# Altium footprint library Fromm.PcbLib: 105 footprints (part 3 of 7)
Each footprint in its own frame and in the unit in brackets; x right, y up, seen from the top. Pads: shape width x height; smd on the part's side, far side on the other; paste and mask are expansions set on the pad; w line width, h text height; cw(c..) or ccw(c..) is an arc to the next point about the centre after c.
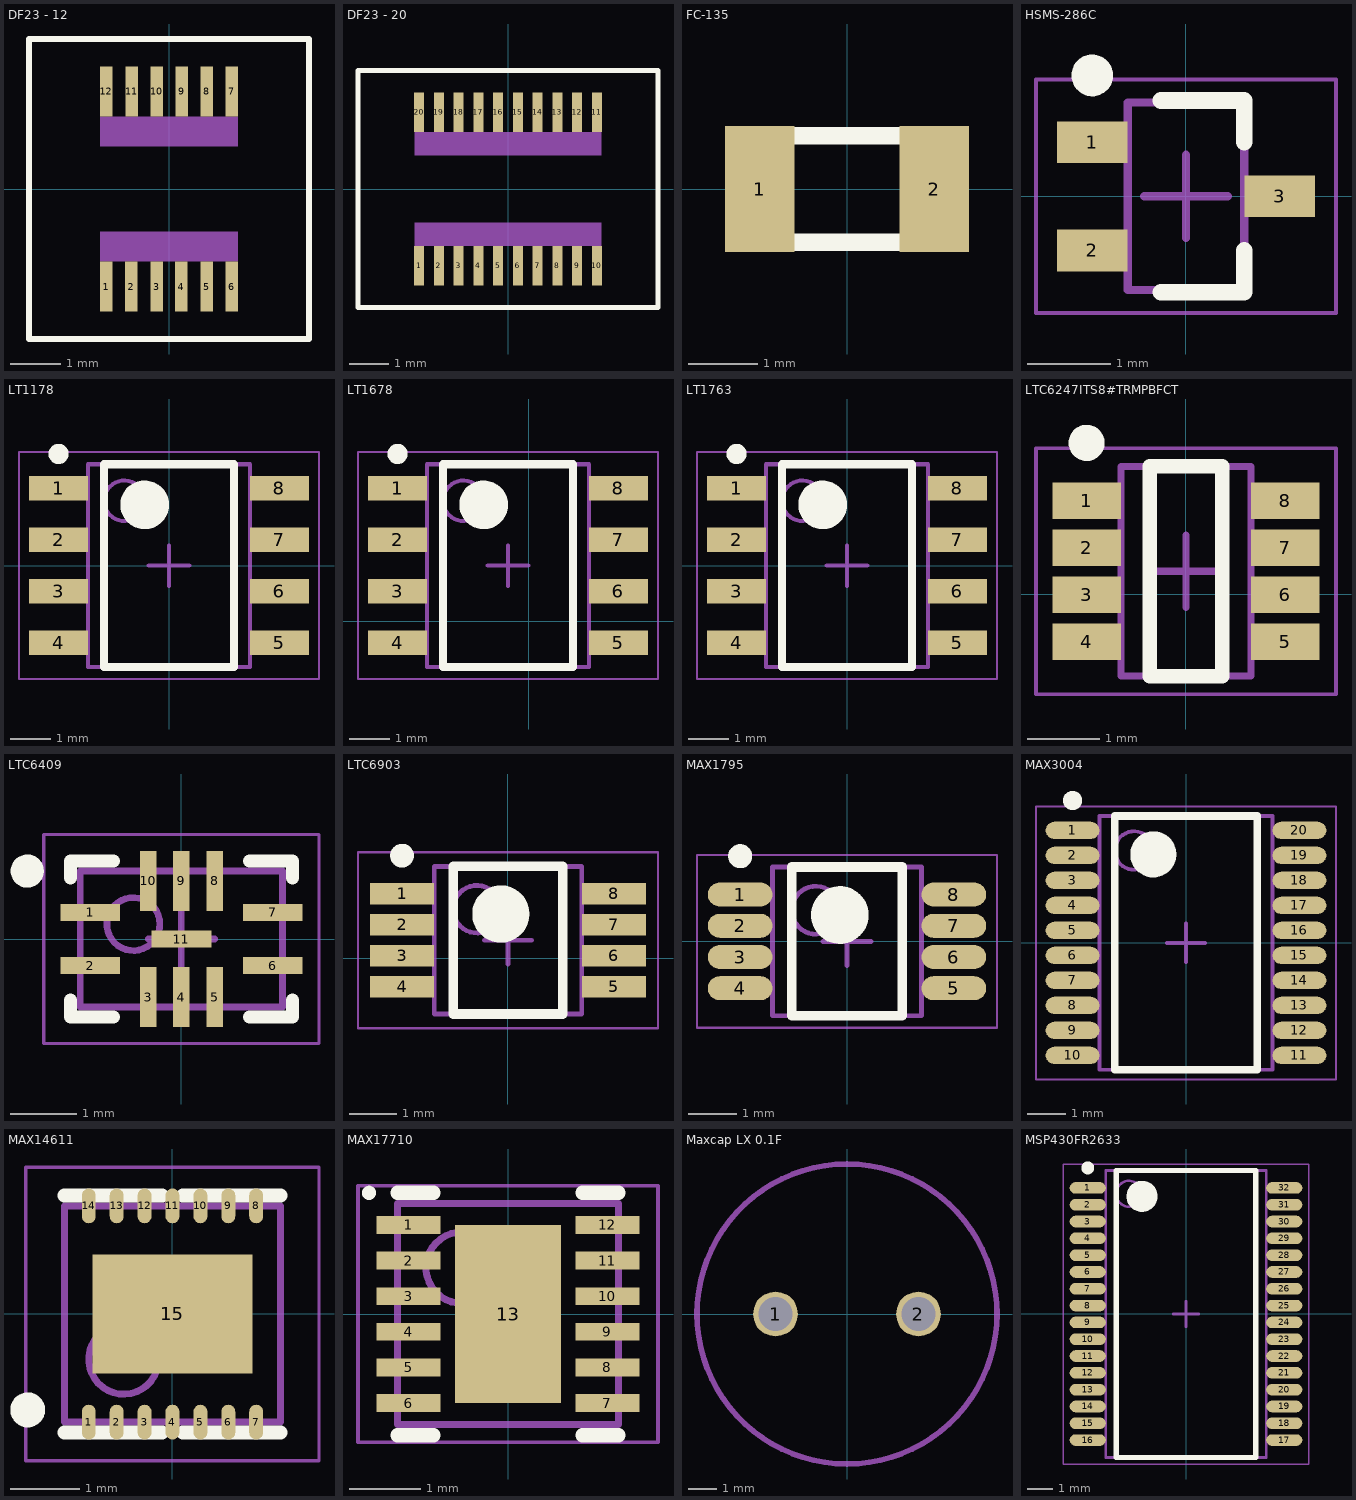
[diagram p2: the footprints below, top view; thin cyan lines are the x and y axes]

## DF23 - 12 [mm] "DF23 - 12, Connector"
height 1.2
pads (12):
  rect 0.25x1 smd: 1(-1.25,-1.95) 2(-0.75,-1.95) 3(-0.25,-1.95) 4(0.25,-1.95) 5(0.75,-1.95) 6(1.25,-1.95) 7(1.25,1.95) 8(0.75,1.95) 9(0.25,1.95) 10(-0.25,1.95) 11(-0.75,1.95) 12(-1.25,1.95)
Top Overlay:
  lines w0.127: -2.8,-3 -2.8,3 2.8,3 2.8,-3 -2.8,-3
Mechanical 1:
  rectangle: -1.375,0.85 1.375,1.45
  rectangle: -1.375,-1.45 1.375,-0.85
  text "Conductors in area must be masked" at -1.375,-0.7 h0.2

## DF23 - 20 [mm] "DF23 - 20, Connector"
height 1.2
pads (20):
  rect 0.25x1 smd: 1(-2.25,-1.95) 2(-1.75,-1.95) 3(-1.25,-1.95) 4(-0.75,-1.95) 5(-0.25,-1.95) 6(0.25,-1.95) 7(0.75,-1.95) 8(1.25,-1.95) 9(1.75,-1.95) 10(2.25,-1.95) 11(2.25,1.95) 12(1.75,1.95) 13(1.25,1.95) 14(0.75,1.95) 15(0.25,1.95) 16(-0.25,1.95) 17(-0.75,1.95) 18(-1.25,1.95) 19(-1.75,1.95) 20(-2.25,1.95)
Top Overlay:
  lines w0.127: -3.8,-3 3.8,-3 3.8,3 -3.8,3 -3.8,-3
Mechanical 1:
  rectangle: -2.375,-1.45 2.375,-0.85
  rectangle: -2.375,0.85 2.375,1.45
  text "Conductors in area must be masked" at -2.375,-0.7 h0.2

## FC-135 [mm] "FC-135   crystal - epson eletronics"
height 0.8
pads (2):
  rect 1x1.8 smd: 1(-1.25,0) 2(1.25,0)
Top Overlay:
  lines w0.254: -0.762,-0.762 0.762,-0.762 ; -0.762,0.762 0.762,0.762

## HSMS-286C [mm] "950 Mhz - 5 Ghz Dual Schottky Diode"
height 1
pads (3):
  rect 0.85x0.5 smd: 1(-1.125,0.65) 2(-1.125,-0.65) 3(1.125,0)
Top Overlay:
  circle w0.25: c-1.125,1.45 r0.125
  lines w0.2: -0.3,-1.15 0.7,-1.15 0.7,-0.65 ; -0.3,1.15 0.7,1.15 0.7,0.65
Mechanical 13:
  lines w0.1: -0.7,-1.125 -0.7,1.125 0.7,1.125 0.7,-1.125 -0.7,-1.125
Mechanical 15:
  lines w0.05: -1.8,-1.4 -1.8,1.4 1.8,1.4 1.8,-1.4 -1.8,-1.4
  lines w0.1: -0.5,0 0.5,0 ; 0,-0.5 0,0.5
3D body: height 1, standoff 0.25, extent -0.7,-1.125 0.7,1.125

## LT1178 [mm] "Op Amp"
height 1.35
pads (8):
  rect 1.45x0.6 smd: 1(-2.725,1.905) 2(-2.725,0.635) 3(-2.725,-0.635) 4(-2.725,-1.905) 5(2.725,-1.905) 6(2.725,-0.635) 7(2.725,0.635) 8(2.725,1.905)
Top Overlay:
  circle w0.6: c-0.6,1.5 r0.3
  circle w0.25: c-2.725,2.755 r0.125
  lines w0.2: -1.6,-2.5 1.6,-2.5 1.6,2.5 -1.6,2.5 -1.6,-2.5
Mechanical 13:
  circle w0.1: c-1.1,1.6 r0.5
  lines w0.1: -2,-2.5 2,-2.5 2,2.5 -2,2.5 -2,-2.5
Mechanical 15:
  lines w0.05: -3.7,-2.8 3.7,-2.8 3.7,2.8 -3.7,2.8 -3.7,-2.8
  lines w0.1: -0.5,0 0.5,0 ; 0,-0.5 0,0.5
3D body: height 1.75, standoff 1.35, extent -2,-2.5 2,2.5

## LT1678 [mm] "Rail to Rail Precision Op Amp"
pads (8):
  rect 1.45x0.6 smd: 1(-3.233,3.277) 2(-3.233,2.007) 3(-3.233,0.737) 4(-3.233,-0.533) 5(2.217,-0.533) 6(2.217,0.737) 7(2.217,2.007) 8(2.217,3.277)
Top Overlay:
  circle w0.6: c-1.108,2.872 r0.3
  circle w0.25: c-3.233,4.127 r0.125
  lines w0.2: -2.108,-1.128 1.092,-1.128 1.092,3.872 -2.108,3.872 -2.108,-1.128
Mechanical 13:
  circle w0.1: c-1.608,2.972 r0.5
  lines w0.1: -2.508,-1.128 1.492,-1.128 1.492,3.872 -2.508,3.872 -2.508,-1.128
Mechanical 15:
  lines w0.05: -4.208,-1.428 3.192,-1.428 3.192,4.172 -4.208,4.172 -4.208,-1.428
  lines w0.1: -1.008,1.372 -0.008,1.372 ; -0.508,0.872 -0.508,1.872
3D body: height 1.75, standoff 1.35, extent -2.508,-1.128 1.492,3.872

## LT1763 [mm] "Low Dropout Regulator"
height 1.35
pads (8):
  rect 1.45x0.6 smd: 1(-2.725,1.905) 2(-2.725,0.635) 3(-2.725,-0.635) 4(-2.725,-1.905) 5(2.725,-1.905) 6(2.725,-0.635) 7(2.725,0.635) 8(2.725,1.905)
Top Overlay:
  circle w0.6: c-0.6,1.5 r0.3
  circle w0.25: c-2.725,2.755 r0.125
  lines w0.2: -1.6,-2.5 1.6,-2.5 1.6,2.5 -1.6,2.5 -1.6,-2.5
Mechanical 13:
  circle w0.1: c-1.1,1.6 r0.5
  lines w0.1: -2,-2.5 2,-2.5 2,2.5 -2,2.5 -2,-2.5
Mechanical 15:
  lines w0.05: -3.7,-2.8 3.7,-2.8 3.7,2.8 -3.7,2.8 -3.7,-2.8
  lines w0.1: -0.5,0 0.5,0 ; 0,-0.5 0,0.5
3D body: height 1.75, standoff 1.35, extent -2,-2.5 2,2.5

## LTC6247ITS8#TRMPBFCT [mm] "TS8 Package Opamp"
pads (8):
  rect 0.95x0.5 smd: 1(-1.371,1.29) 2(-1.371,0.64) 3(-1.371,-0.01) 4(-1.371,-0.66) 5(1.379,-0.66) 6(1.379,-0.01) 7(1.379,0.64) 8(1.379,1.29)
Top Overlay:
  circle w0.25: c-1.371,2.09 r0.125
  lines w0.2: -0.496,-1.135 -0.496,1.765 0.504,1.765 0.504,-1.135 -0.496,-1.135
Mechanical 13:
  lines w0.1: -0.896,-1.135 -0.896,1.765 0.904,1.765 0.904,-1.135 -0.896,-1.135
Mechanical 15:
  lines w0.05: -2.071,-1.385 -2.071,2.015 2.079,2.015 2.079,-1.385 -2.071,-1.385
  lines w0.1: -0.496,0.315 0.504,0.315 ; 0.004,-0.185 0.004,0.815
3D body: height 1, standoff 0.2, extent -0.896,-1.135 0.904,1.765

## LTC6409 [mm] "QFN UDP high frequency op amp"
height 0.8
pads (11):
  rect 0.9x0.25 smd: 1(-1.375,0.4) 2(-1.375,-0.4) 6(1.375,-0.4) 7(1.375,0.4) 11(0,0)
  rect 0.25x0.9 smd: 3(-0.5,-0.875) 4(0,-0.875) 5(0.5,-0.875) 8(0.5,0.875) 9(0,0.875) 10(-0.5,0.875)
Top Overlay:
  circle w0.25: c-2.325,1.025 r0.125
  lines w0.2: -1.675,-0.925 -1.675,-1.175 -1.025,-1.175 ; -1.675,0.925 -1.675,1.175 -1.025,1.175 ; 1.025,-1.175 1.675,-1.175 1.675,-0.925 ; 1.025,1.175 1.675,1.175 1.675,0.925
Mechanical 13:
  circle w0.1: c-0.725,0.225 r0.4
  lines w0.1: -1.525,-1.025 1.525,-1.025 1.525,1.025 -1.525,1.025 -1.525,-1.025
Mechanical 15:
  lines w0.05: -2.075,-1.575 2.075,-1.575 2.075,1.575 -2.075,1.575 -2.075,-1.575
  lines w0.1: -0.5,0 0.5,0 ; 0,-0.5 0,0.5
3D body: height 0.8, standoff 0, extent -1.525,-1.025 1.525,1.025

## LTC6903 [mm] "Programmable Oscillator"
pads (8):
  rect 1.35x0.45 smd: 1(-2.225,1.356) 2(-2.225,0.706) 3(-2.225,0.056) 4(-2.225,-0.594) 5(2.225,-0.594) 6(2.225,0.056) 7(2.225,0.706) 8(2.225,1.356)
Top Overlay:
  circle w0.6: c-0.15,0.931 r0.3
  circle w0.25: c-2.225,2.156 r0.125
  lines w0.2: -1.15,-1.169 1.15,-1.169 1.15,1.931 -1.15,1.931 -1.15,-1.169
Mechanical 13:
  circle w0.1: c-0.65,1.031 r0.5
  lines w0.1: -1.55,-1.169 1.55,-1.169 1.55,1.931 -1.55,1.931 -1.55,-1.169
Mechanical 15:
  lines w0.05: -3.15,-1.469 3.15,-1.469 3.15,2.231 -3.15,2.231 -3.15,-1.469
  lines w0.1: -0.5,0.381 0.5,0.381 ; 0,-0.119 0,0.881
3D body: height 1.1, standoff 0.15, extent -1.55,-1.169 1.55,1.931

## MAX1795 [mm] "Boost Converter"
height 1.1
pads (8):
  oval 1.35x0.5 smd: 1(-2.225,0.975) 2(-2.225,0.325) 3(-2.225,-0.325) 4(-2.225,-0.975) 5(2.225,-0.975) 6(2.225,-0.325) 7(2.225,0.325) 8(2.225,0.975)
Top Overlay:
  circle w0.6: c-0.15,0.55 r0.3
  circle w0.25: c-2.225,1.775 r0.125
  lines w0.2: -1.15,-1.55 1.15,-1.55 1.15,1.55 -1.15,1.55 -1.15,-1.55
Mechanical 13:
  circle w0.1: c-0.65,0.65 r0.5
  lines w0.1: -1.55,-1.55 1.55,-1.55 1.55,1.55 -1.55,1.55 -1.55,-1.55
Mechanical 15:
  lines w0.05: -3.125,-1.8 3.125,-1.8 3.125,1.8 -3.125,1.8 -3.125,-1.8
  lines w0.1: -0.5,0 0.5,0 ; 0,-0.5 0,0.5
3D body: height 1.1, standoff 0.15, extent -1.55,-1.55 1.55,1.55

## MAX3004 [mm] "Octal Level Shifter"
height 1.1
pads (20):
  oval 1.4x0.45 smd: 1(-2.95,2.925) 2(-2.95,2.275) 3(-2.95,1.625) 4(-2.95,0.975) 5(-2.95,0.325) 6(-2.95,-0.325) 7(-2.95,-0.975) 8(-2.95,-1.625) 9(-2.95,-2.275) 10(-2.95,-2.925) 11(2.95,-2.925) 12(2.95,-2.275) 13(2.95,-1.625) 14(2.95,-0.975) 15(2.95,-0.325) 16(2.95,0.325) 17(2.95,0.975) 18(2.95,1.625) 19(2.95,2.275) 20(2.95,2.925)
Top Overlay:
  circle w0.6: c-0.85,2.3 r0.3
  circle w0.25: c-2.95,3.7 r0.125
  lines w0.2: -1.85,-3.3 1.85,-3.3 1.85,3.3 -1.85,3.3 -1.85,-3.3
Mechanical 13:
  circle w0.1: c-1.35,2.4 r0.5
  lines w0.1: -2.25,-3.3 2.25,-3.3 2.25,3.3 -2.25,3.3 -2.25,-3.3
Mechanical 15:
  lines w0.05: -3.9,-3.55 3.9,-3.55 3.9,3.55 -3.9,3.55 -3.9,-3.55
  lines w0.1: -0.5,0 0.5,0 ; 0,-0.5 0,0.5
3D body: height 1.1, standoff 0.15, extent -2.25,-3.3 2.25,3.3

## MAX14611 [mm] "Voltage Translator"
height 0.8
pads (15):
  oval 0.2x0.5 smd: 1(-1.2,-1.55) 2(-0.8,-1.55) 3(-0.4,-1.55) 4(0,-1.55) 5(0.4,-1.55) 6(0.8,-1.55) 7(1.2,-1.55) 8(1.2,1.55) 9(0.8,1.55) 10(0.4,1.55) 11(0,1.55) 12(-0.4,1.55) 13(-0.8,1.55) 14(-1.2,1.55)
  rect 2.3x1.7 smd: 15(0,0)
Top Overlay:
  circle w0.25: c-2.075,-1.375 r0.125
  lines w0.2: -1.55,-1.7 -0.15,-1.7 ; -1.55,1.7 -0.15,1.7 ; 0.15,-1.7 1.55,-1.7 ; 0.15,1.7 1.55,1.7
Mechanical 13:
  circle w0.1: c-0.7,-0.65 r0.5
  lines w0.1: -1.55,-1.55 -1.55,1.55 1.55,1.55 1.55,-1.55 -1.55,-1.55
Mechanical 15:
  lines w0.05: -2.1,-2.1 -2.1,2.1 2.1,2.1 2.1,-2.1 -2.1,-2.1
  lines w0.1: -0.5,0 0.5,0 ; 0,-0.5 0,0.5
3D body: height 0.8, standoff 0.05, extent -1.55,-1.55 1.55,1.55

## MAX17710 [mm] "Boost Converter, Battery Charger, and Regulator"
height 0.55
pads (13):
  rect 0.9x0.25 smd: 1(-1.395,1.25) 2(-1.395,0.75) 3(-1.395,0.25) 4(-1.395,-0.25) 5(-1.395,-0.75) 6(-1.395,-1.25) 7(1.395,-1.25) 8(1.395,-0.75) 9(1.395,-0.25) 10(1.395,0.25) 11(1.395,0.75) 12(1.395,1.25)
  rect 1.49x2.5 smd mask+0.05: 13(0,0)
Top Overlay:
  circle w0.1: c-1.95,1.7 r0.05
  lines w0.2: -1.55,-1.7 -1.045,-1.7 ; -1.55,1.7 -1.045,1.7 ; 1.045,-1.7 1.55,-1.7 ; 1.045,1.7 1.55,1.7
Mechanical 13:
  circle w0.1: c-0.65,0.65 r0.5
  lines w0.1: -1.55,-1.55 1.55,-1.55 1.55,1.55 -1.55,1.55 -1.55,-1.55
Mechanical 15:
  lines w0.05: -2.105,-1.8 2.105,-1.8 2.105,1.8 -2.105,1.8 -2.105,-1.8
  lines w0.1: -0.5,0 0.5,0 ; 0,-0.5 0,0.5
3D body: height 0.55, standoff 0.01, extent -1.55,-1.55 1.55,1.55

## Maxcap LX 0.1F [mm] "Maxcap LX Series, 0.1F, Diameter  11mm, Leads 5.1mm"
height 6.5
pads (2):
  round 1.6 hole 1.2: 1(-2.55,0) 2(2.55,0)
Mechanical 1:
  circle w0.2: c0,0 r5.35

## MSP430FR2633 [mm] "MSP430 32TSSOP 6.2x11"
height 1.2
pads (32):
  oval 1.4x0.45 smd: 1(-3.8,4.875) 2(-3.8,4.225) 3(-3.8,3.575) 4(-3.8,2.925) 5(-3.8,2.275) 6(-3.8,1.625) 7(-3.8,0.975) 8(-3.8,0.325) 9(-3.8,-0.325) 10(-3.8,-0.975) 11(-3.8,-1.625) 12(-3.8,-2.275) 13(-3.8,-2.925) 14(-3.8,-3.575) 15(-3.8,-4.225) 16(-3.8,-4.875) 17(3.8,-4.875) 18(3.8,-4.225) 19(3.8,-3.575) 20(3.8,-2.925) 21(3.8,-2.275) 22(3.8,-1.625) 23(3.8,-0.975) 24(3.8,-0.325) 25(3.8,0.325) 26(3.8,0.975) 27(3.8,1.625) 28(3.8,2.275) 29(3.8,2.925) 30(3.8,3.575) 31(3.8,4.225) 32(3.8,4.875)
Top Overlay:
  circle w0.6: c-1.7,4.55 r0.3
  circle w0.25: c-3.8,5.65 r0.125
  lines w0.2: -2.7,-5.55 2.7,-5.55 2.7,5.55 -2.7,5.55 -2.7,-5.55
Mechanical 13:
  circle w0.1: c-2.2,4.65 r0.5
  lines w0.1: -3.1,-5.55 3.1,-5.55 3.1,5.55 -3.1,5.55 -3.1,-5.55
Mechanical 15:
  lines w0.05: -4.75,-5.8 4.75,-5.8 4.75,5.8 -4.75,5.8 -4.75,-5.8
  lines w0.1: -0.5,0 0.5,0 ; 0,-0.5 0,0.5
3D body: height 1.2, standoff 0.05, extent -3.1,-5.55 3.1,5.55